# Altium schematic symbol library 1050170001.SchLib: 1 symbol
Pins are listed as number, name and electrical type; pins without a type are passive.

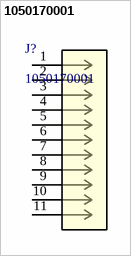
[diagram p0: symbol 1050170001]

## 1050170001
designator J?
Micro-USB B Receptacle, Bottom Mount, Surface Mount, Lead-Free, 0.60mm Tabs, TID; Manufacturer_Name: Molex Connector Corporation; Copyright: Copyright (C) 2025 Ultra Librarian. All rights reserved.; Manufacturer_Part_Number: 1050170001; RefDes: RefDes; Type: Type
footprint CONN_1050170001_MOL
pins: 1, 2, 3, 4, 5, 6, 7, 8, 9, 10, 11